# Altium schematic symbol library ADG733.Schlib: 1 symbol
Pins are listed as number, name and electrical type; pins without a type are passive.

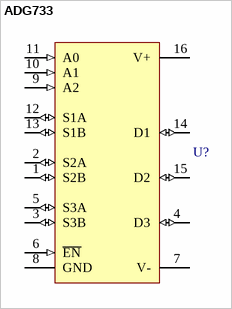
[diagram p0: symbol ADG733]

## ADG733
designator U?
pins: 1 S2B (io), 2 S2A (io), 3 S3B (io), 4 D3 (io), 5 S3A (io), 6 ~{EN} (in), 7 V- (power), 8 GND (power), 9 A2 (in), 10 A1 (in), 11 A0 (in), 12 S1A (io), 13 S1B (io), 14 D1 (io), 15 D2 (io), 16 V+ (power)